# Altium schematic symbol library MCU.SchLib: 13 symbols
Pins are listed as number, name and electrical type; pins without a type are passive.

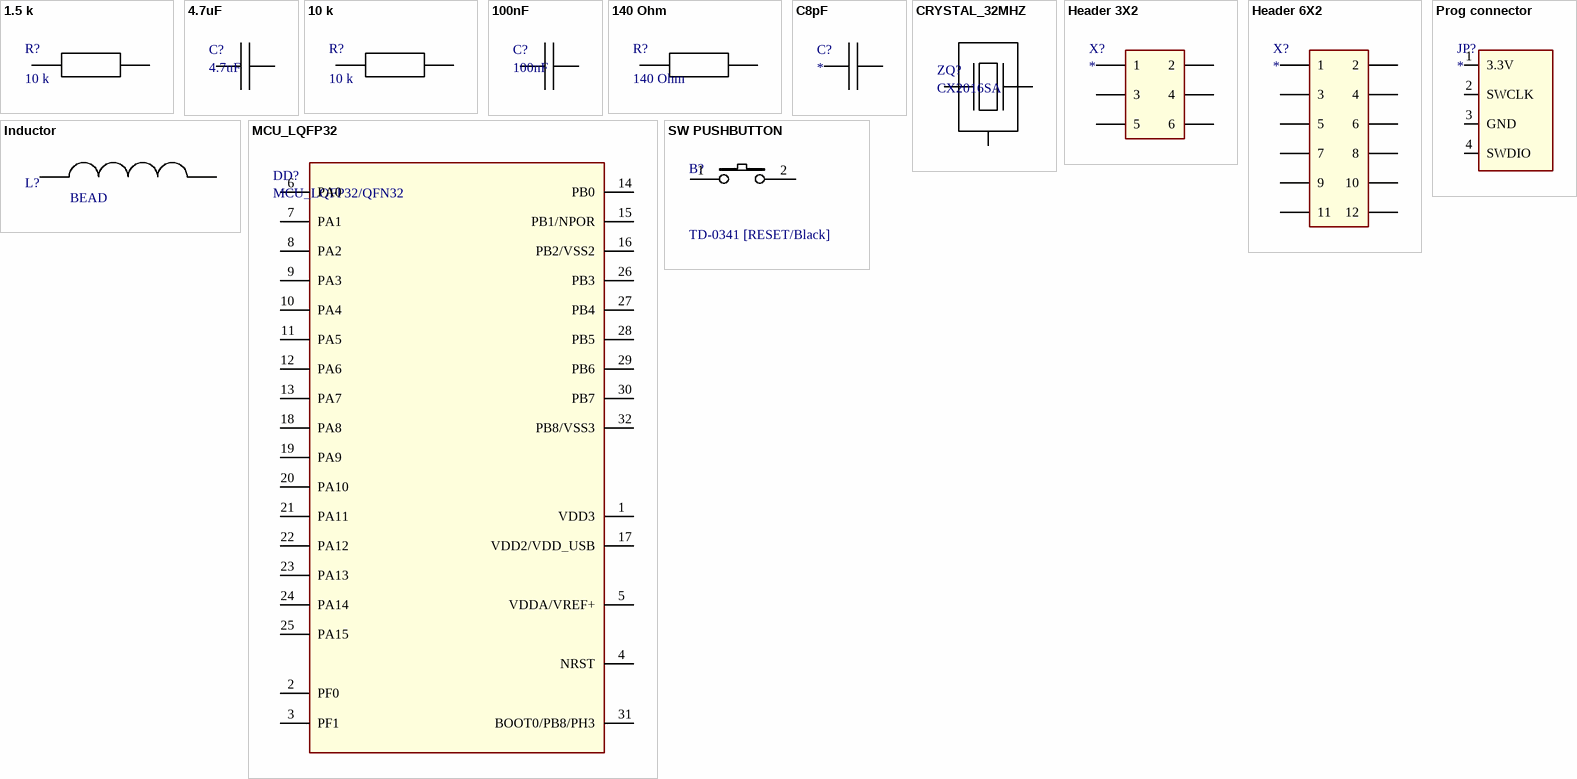
[diagram p0: symbols 1.5 k to SW PUSHBUTTON]

## 1.5 k
designator R?, comment 10 k
Resistor 0603
footprint R0603 (Chip Resistor, 2-Leads, Body 1.60x0.80mm, IPC Medium Density)
pins: 1, 2

## 4.7uF
designator C?
Capasitor 0805
footprint 0805C (Chip Capacitor, 2-Leads, Body 2.00x1.25mm, IPC Medium Density)
pins: 1, 2

## 10 k
designator R?
Resistor 0603
footprint R0603 (Chip Resistor, 2-Leads, Body 1.60x0.80mm, IPC Medium Density)
pins: 1, 2

## 100nF
designator C?
Capasitor 0603
footprint 0603C (Chip Capacitor, 2-Leads, Body 1.60x0.80mm, IPC Medium Density)
pins: 1, 2

## 140 Ohm
designator R?
Resistor 0603
footprint R0603 (Chip Resistor, 2-Leads, Body 1.60x0.80mm, IPC Medium Density)
pins: 1, 2

## C8pF
designator C?
Capasitor 0603
footprint C0603 (Chip Capacitor, 2-Leads, Body 1.60x0.80mm, IPC Medium Density)
pins: 1, 2

## CRYSTAL_32MHZ
designator ZQ?, comment CX2016SA
Crystal CX2016SA
footprint XTAL_2SM_3R2X1R5 (CRYSTAL 32.768KHZ 6PF SMD 2 pads)
pins: 1 HOT, 2 GND, 3 HOT

## Header 3X2
designator X?
Header 6X2
footprint DIP 2*3
pins: 1, 2, 3, 4, 5, 6

## Header 6X2
designator X?
Header 6X2
footprint DIP 2*6
pins: 1, 2, 3, 4, 5, 6, 7, 8, 9, 10, 11, 12

## Inductor
designator L?, comment BEAD
Inductor; Value: 100uH; Published: 8-Jun-2000; Revision: July-2002: Re-released for DXP Platform.; Publisher: Altium Limited
footprint 0603L (Bead 0603L)
pins: 1, 2

## MCU_LQFP32
designator DD?, comment MCU_LQFP32/QFN32
STM32F0
footprint LQFP32_0R5_7x7 (LQFP32 Recommended ,32 Pin MCU Size,7x7mm, Pitch, 0.8mm)
pins: 1 VDD3 (power) "VDD", 2 PF0, 3 PF1, 4 NRST, 5 VDDA/VREF+ (power) "VDDA", 6 PA0, 7 PA1, 8 PA2, 9 PA3, 10 PA4, 11 PA5, 12 PA6, 13 PA7, 14 PB0, 15 PB1/NPOR "PB1", 16 PB2/VSS2 (power) "VSS", 17 VDD2/VDD_USB "VDDIO2", 18 PA8, 19 PA9, 20 PA10, 21 PA11, 22 PA12, 23 PA13, 24 PA14, 25 PA15, 26 PB3, 27 PB4, 28 PB5, 29 PB6, 30 PB7, 31 BOOT0/PB8/PH3 "PB8", 32 PB8/VSS3 (power) "VSS"

## Prog connector
designator JP?
Through hole header 4x1pins, MALE, Vertical, 2.54mm pitch
footprint prog_conn
pins: 1 3.3V, 2 SWCLK, 3 GND, 4 SWDIO

## SW PUSHBUTTON
designator B?, comment TD-0341 [RESET/Black]
SE PUSHBUTTON
footprint SW2_5R6_5R5x3R1 (Subminiature Side Actuated Tact Switch for SMT)
pins: 1 A0, 2 B0